# Altium footprint library M12_Lens_Mount.PcbLib: 1 footprints
Each footprint in its own frame and in the unit in brackets; x right, y up, seen from the top. Pads: shape width x height; smd on the part's side, far side on the other; paste and mask are expansions set on the pad; w line width, h text height; cw(c..) or ccw(c..) is an arc to the next point about the centre after c.
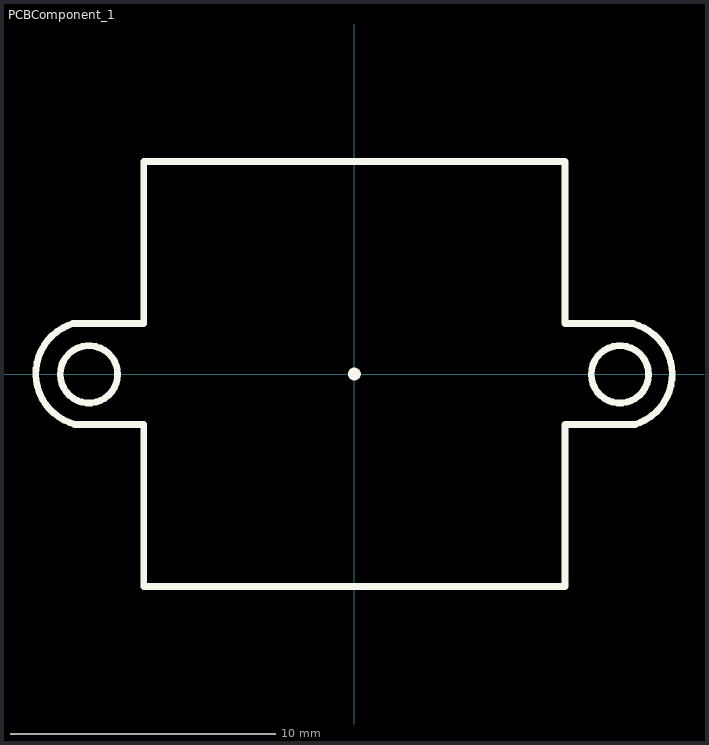
[diagram p0: the footprint, top view; thin cyan lines are the x and y axes]

## PCBComponent_1 [mm]
Top Overlay:
  circle w0.254: c0,0 r0.114
  circle w0.254: c10.001,-0.013 r1.079
  circle w0.254: c-10.001,-0.013 r1.079
  lines w0.254: -10.609,1.905 -7.938,1.905 -7.938,8.001 7.938,8.001 7.938,1.905 10.511,1.905 ; -10.576,1.906 ccw(c-10.033,0.013) -10.509,-1.898 ; -10.543,-1.905 -7.938,-1.905 -7.938,-5.62 -7.938,-8.001 7.938,-8.001 7.938,-1.905 10.577,-1.905 ; 10.478,1.898 cw(c10.001,-0.013) 10.544,-1.906
3D body "M12 lens holder.STEP": height 14.8, standoff 0, extent -12,-8 12,8